# EAGLE library part SOL_SMD (library SunOrbitControllerSMD)
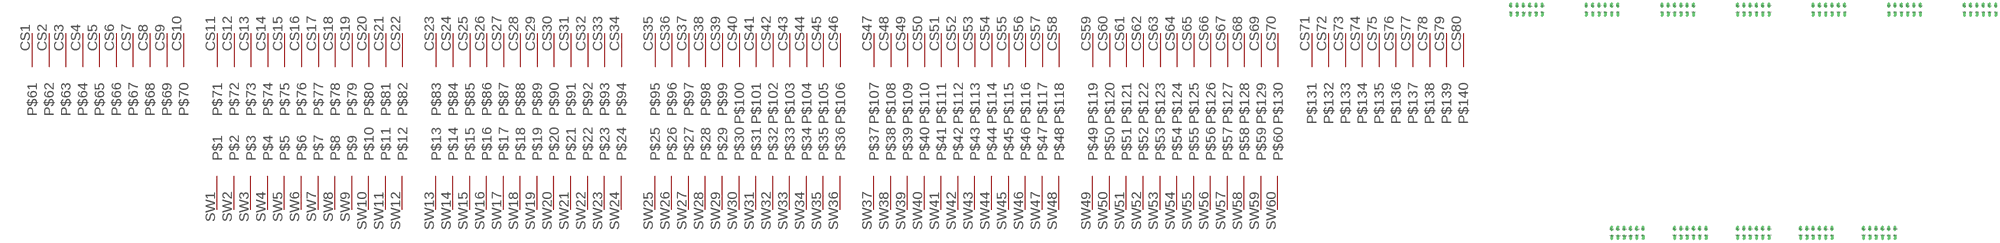
[diagram p0: symbol with the pads of FOOTPRINT; footprint FOOTPRINT]

Designator prefix -

## SOL_SMD  [FOOTPRINT]
CS1  P$61
CS2  P$62
CS3  P$63
CS4  P$64
CS5  P$65
CS6  P$66
CS7  P$67
CS8  P$68
CS9  P$69
CS10  P$70
CS11  P$71
CS12  P$72
CS13  P$73
CS14  P$74
CS15  P$75
CS16  P$76
CS17  P$77
CS18  P$78
CS19  P$79
CS20  P$80
CS21  P$81
CS22  P$82
CS23  P$83
CS24  P$84
CS25  P$85
CS26  P$86
CS27  P$87
CS28  P$88
CS29  P$89
CS30  P$90
CS31  P$91
CS32  P$92
CS33  P$93
CS34  P$94
CS35  P$95
CS36  P$96
CS37  P$97
CS38  P$98
CS39  P$99
CS40  P$100
CS41  P$101
CS42  P$102
CS43  P$103
CS44  P$104
CS45  P$105
CS46  P$106
CS47  P$107
CS48  P$108
CS49  P$109
CS50  P$110
CS51  P$111
CS52  P$112
CS53  P$113
CS54  P$114
CS55  P$115
CS56  P$116
CS57  P$117
CS58  P$118
CS59  P$119
CS60  P$120
CS61  P$121
CS62  P$122
CS63  P$123
CS64  P$124
CS65  P$125
CS66  P$126
CS67  P$127
CS68  P$128
CS69  P$129
CS70  P$130
CS71  P$131
CS72  P$132
CS73  P$133
CS74  P$134
CS75  P$135
CS76  P$136
CS77  P$137
CS78  P$138
CS79  P$139
CS80  P$140
SW1  P$1
SW2  P$2
SW3  P$3
SW4  P$4
SW5  P$5
SW6  P$6
SW7  P$7
SW8  P$8
SW9  P$9
SW10  P$10
SW11  P$11
SW12  P$12
SW13  P$13
SW14  P$14
SW15  P$15
SW16  P$16
SW17  P$17
SW18  P$18
SW19  P$19
SW20  P$20
SW21  P$21
SW22  P$22
SW23  P$23
SW24  P$24
SW25  P$25
SW26  P$26
SW27  P$27
SW28  P$28
SW29  P$29
SW30  P$30
SW31  P$31
SW32  P$32
SW33  P$33
SW34  P$34
SW35  P$35
SW36  P$36
SW37  P$37
SW38  P$38
SW39  P$39
SW40  P$40
SW41  P$41
SW42  P$42
SW43  P$43
SW44  P$44
SW45  P$45
SW46  P$46
SW47  P$47
SW48  P$48
SW49  P$49
SW50  P$50
SW51  P$51
SW52  P$52
SW53  P$53
SW54  P$54
SW55  P$55
SW56  P$56
SW57  P$57
SW58  P$58
SW59  P$59
SW60  P$60

## Footprint FOOTPRINT (pad centres in mm)
drill 0.6 offset: CS1 -95.25,44.45; CS2 -95.25,41.91; CS3 -92.71,44.45; CS4 -92.71,41.91; CS5 -90.17,44.45; CS6 -90.17,41.91; CS7 -87.63,44.45; CS8 -87.63,41.91; CS9 -85.09,44.45; CS10 -85.09,41.91; CS11 -67.31,44.45; CS12 -67.31,41.91; CS13 -64.77,44.45; CS14 -64.77,41.91; CS15 -62.23,44.45; CS16 -62.23,41.91; CS17 -59.69,44.45; CS18 -59.69,41.91; CS19 -57.15,44.45; CS20 -57.15,41.91; CS21 -54.61,44.45; CS22 -54.61,41.91; CS23 -36.83,44.45; CS24 -36.83,41.91; CS25 -34.29,44.45; CS26 -34.29,41.91; CS27 -31.75,44.45; CS28 -31.75,41.91; CS29 -29.21,44.45; CS30 -29.21,41.91; CS31 -26.67,44.45; CS32 -26.67,41.91; CS33 -24.13,44.45; CS34 -24.13,41.91; CS35 -6.35,44.45; CS36 -6.35,41.91; CS37 -3.81,44.45; CS38 -3.81,41.91; CS39 -1.27,44.45; CS40 -1.27,41.91; CS41 1.27,44.45; CS42 1.27,41.91; CS43 3.81,44.45; CS44 3.81,41.91; CS45 6.35,44.45; CS46 6.35,41.91; CS47 24.13,44.45; CS48 24.13,41.91; CS49 26.67,44.45; CS50 26.67,41.91; CS51 29.21,44.45; CS52 29.21,41.91; CS53 31.75,44.45; CS54 31.75,41.91; CS55 34.29,44.45; CS56 34.29,41.91; CS57 36.83,44.45; CS58 36.83,41.91; CS59 54.61,44.45; CS60 54.61,41.91; CS61 57.15,44.45; CS62 57.15,41.91; CS63 59.69,44.45; CS64 59.69,41.91; CS65 62.23,44.45; CS66 62.23,41.91; CS67 64.77,44.45; CS68 64.77,41.91; CS69 67.31,44.45; CS70 67.31,41.91; CS71 85.09,44.45; CS72 85.09,41.91; CS73 87.63,44.45; CS74 87.63,41.91; CS75 90.17,44.45; CS76 90.17,41.91; CS77 92.71,44.45; CS78 92.71,41.91; CS79 95.25,44.45; CS80 95.25,41.91; NC_1 -97.79,44.45; NC_2 -97.79,41.91; NC_3 97.79,44.45; NC_4 97.79,41.91; SW1 -57.15,-45.72; SW2 -57.15,-48.26; SW3 -54.61,-45.72; SW4 -54.61,-48.26; SW5 -52.07,-45.72; SW6 -52.07,-48.26; SW7 -49.53,-45.72; SW8 -49.53,-48.26; SW9 -46.99,-45.72; SW10 -46.99,-48.26; SW11 -44.45,-45.72; SW12 -44.45,-48.26; SW13 -31.75,-45.72; SW14 -31.75,-48.26; SW15 -29.21,-45.72; SW16 -29.21,-48.26; SW17 -26.67,-45.72; SW18 -26.67,-48.26; SW19 -24.13,-45.72; SW20 -24.13,-48.26; SW21 -21.59,-45.72; SW22 -21.59,-48.26; SW23 -19.05,-45.72; SW24 -19.05,-48.26; SW25 -6.35,-45.72; SW26 -6.35,-48.26; SW27 -3.81,-45.72; SW28 -3.81,-48.26; SW29 -1.27,-45.72; SW30 -1.27,-48.26; SW31 1.27,-45.72; SW32 1.27,-48.26; SW33 3.81,-45.72; SW34 3.81,-48.26; SW35 6.35,-45.72; SW36 6.35,-48.26; SW37 19.05,-45.72; SW38 19.05,-48.26; SW39 21.59,-45.72; SW40 21.59,-48.26; SW41 24.13,-45.72; SW42 24.13,-48.26; SW43 26.67,-45.72; SW44 26.67,-48.26; SW45 29.21,-45.72; SW46 29.21,-48.26; SW47 31.75,-45.72; SW48 31.75,-48.26; SW49 44.45,-45.72; SW50 44.45,-48.26; SW51 46.99,-45.72; SW52 46.99,-48.26; SW53 49.53,-45.72; SW54 49.53,-48.26; SW55 52.07,-45.72; SW56 52.07,-48.26; SW57 54.61,-45.72; SW58 54.61,-48.26; SW59 57.15,-45.72; SW60 57.15,-48.26